# Altium schematic symbol library A3PE1500_ProAsici3.Schlib: 1 symbol
Pins are listed as number, name and electrical type; pins without a type are passive.

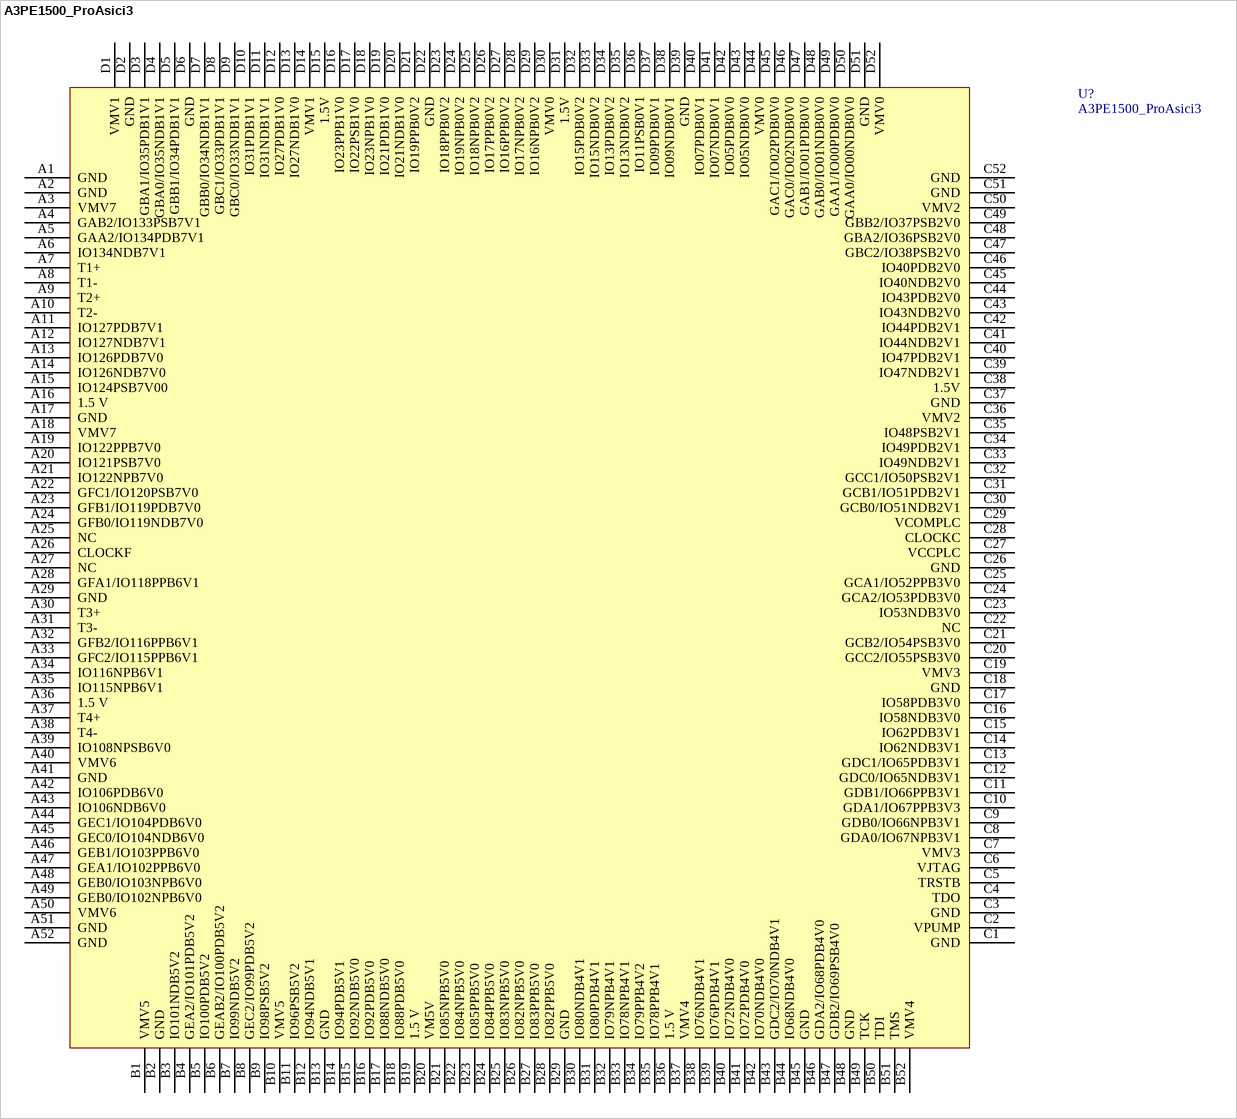
[diagram p0: symbol A3PE1500_ProAsici3]

## A3PE1500_ProAsici3
designator U?
Назначение: A3PE1500 - ProAsici3; Наименование: A3PE1500; Потребление, Вт: *
footprint A3PE1500_ProAsic3
pins: A1 GND (hiz), A2 GND (power), A3 VMV7 (power), A4 GAB2/IO133PSB7V1 (hiz), A5 GAA2/IO134PDB7V1 (hiz), A6 IO134NDB7V1 (hiz), A7 T1+ (hiz), A8 T1- (power), A9 T2+ (hiz), A10 T2- (hiz), A11 IO127PDB7V1 (hiz), A12 IO127NDB7V1 (hiz), A13 IO126PDB7V0 (hiz), A14 IO126NDB7V0 (power), A15 IO124PSB7V00 (hiz), A16 1.5 V (hiz), A17 GND (hiz), A18 VMV7 (hiz), A19 IO122PPB7V0 (hiz), A20 IO121PSB7V0 (power), A21 IO122NPB7V0 (hiz), A22 GFC1/IO120PSB7V0 (hiz), A23 GFB1/IO119PDB7V0 (hiz), A24 GFB0/IO119NDB7V0 (hiz), A25 NC (hiz), A26 CLOCKF (hiz), A27 NC (hiz), A28 GFA1/IO118PPB6V1 (hiz), A29 GND (power), A30 T3+ (power), A31 T3- (power), A32 GFB2/IO116PPB6V1 (power), A33 GFC2/IO115PPB6V1 (power), A34 IO116NPB6V1 (power), A35 IO115NPB6V1 (power), A36 1.5 V (power), A37 T4+ (power), A38 T4- (power), A39 IO108NPSB6V0 (power), A40 VMV6 (power), A41 GND (power), A42 IO106PDB6V0 (power), A43 IO106NDB6V0 (power), A44 GEC1/IO104PDB6V0 (power), A45 GEC0/IO104NDB6V0 (power), A46 GEB1/IO103PPB6V0 (power), A47 GEA1/IO102PPB6V0 (power), A48 GEB0/IO103NPB6V0 (power), A49 GEB0/IO102NPB6V0 (power), A50 VMV6 (power), A51 GND (power), A52 GND (power), B1 VMV5 (power), B2 GND (power), B3 IO101NDB5V2 (power), B4 GEA2/IO101PDB5V2 (power), B5 IO100PDB5V2 (power), B6 GEAB2/IO100PDB5V2 (power), B7 IO99NDB5V2 (power), B8 GEC2/IO99PDB5V2 (power), B9 IO98PSB5V2 (power), B10 VMV5 (power), B11 IO96PSB5V2 (power), B12 IO94NDB5V1 (power), B13 GND (power), B14 IO94PDB5V1 (power), B15 IO92NDB5V0 (power), B16 IO92PDB5V0 (power), B17 IO88NDB5V0 (power), B18 IO88PDB5V0 (power), B19 1.5 V (power), B20 VM5V (power), B21 IO85NPB5V0 (power), B22 IO84NPB5V0 (power), B23 IO85PPB5V0 (power), B24 IO84PPB5V0 (power), B25 IO83NPB5V0 (power), B26 IO82NPB5V0 (power), B27 IO83PPB5V0 (power), B28 IO82PPB5V0 (power), B29 GND (power), B30 IO80NDB4V1 (power), B31 IO80PDB4V1 (power), B32 IO79NPB4V1 (power), B33 IO78NPB4V1 (power), B34 IO79PPB4V2 (power), B35 IO78PPB4V1 (power), B36 1.5 V (power), B37 VMV4 (power), B38 IO76NDB4V1 (power), B39 IO76PDB4V1 (power), B40 IO72NDB4V0 (power), B41 IO72PDB4V0 (power), B42 IO70NDB4V0 (power), B43 GDC2/IO70NDB4V1 (power), B44 IO68NDB4V0 (power), B45 GND (power), B46 GDA2/IO68PDB4V0 (power), B47 GDB2/IO69PSB4V0 (power), B48 GND (power), B49 TCK (power), B50 TDI (power), B51 TMS (power), B52 VMV4 (power), C1 GND (power), C2 VPUMP (power), C3 GND (power), C4 TDO (power), C5 TRSTB (power), C6 VJTAG (power), C7 VMV3 (power), C8 GDA0/IO67NPB3V1 (power), C9 GDB0/IO66NPB3V1 (power), C10 GDA1/IO67PPB3V3 (power), C11 GDB1/IO66PPB3V1 (power), C12 GDC0/IO65NDB3V1 (power), C13 GDC1/IO65PDB3V1 (power), C14 IO62NDB3V1 (power), C15 IO62PDB3V1 (power), C16 IO58NDB3V0 (power), C17 IO58PDB3V0 (power), C18 GND (power), C19 VMV3 (power), C20 GCC2/IO55PSB3V0 (power), C21 GCB2/IO54PSB3V0 (power), C22 NC (power), C23 IO53NDB3V0 (power), C24 GCA2/IO53PDB3V0 (power), C25 GCA1/IO52PPB3V0 (power), C26 GND (power), C27 VCCPLC (power), C28 CLOCKC (power), C29 VCOMPLC (power), C30 GCB0/IO51NDB2V1 (power), C31 GCB1/IO51PDB2V1 (power), C32 GCC1/IO50PSB2V1 (power), C33 IO49NDB2V1 (power), C34 IO49PDB2V1 (power), C35 IO48PSB2V1 (power), C36 VMV2 (power), C37 GND (power), C38 1.5V (power), C39 IO47NDB2V1 (power), C40 IO47PDB2V1 (power), C41 IO44NDB2V1 (power), C42 IO44PDB2V1 (power), C43 IO43NDB2V0 (power), C44 IO43PDB2V0 (power), C45 IO40NDB2V0 (power), C46 IO40PDB2V0 (power), C47 GBC2/IO38PSB2V0 (power), C48 GBA2/IO36PSB2V0 (power), C49 GBB2/IO37PSB2V0 (power), C50 VMV2 (power), C51 GND (power), C52 GND (power), D1 VMV1 (hiz), D2 GND (hiz), D3 GBA1/IO35PDB1V1 (hiz), D4 GBA0/IO35NDB1V1 (hiz), D5 GBB1/IO34PDB1V1 (hiz), D6 GND (hiz), D7 GBB0/IO34NDB1V1 (hiz), D8 GBC1/IO33PDB1V1 (hiz), D9 GBC0/IO33NDB1V1 (hiz), D10 IO31PDB1V1 (hiz), D11 IO31NDB1V1 (hiz), D12 IO27PDB1V0 (hiz), D13 IO27NDB1V0 (hiz), D14 VMV1 (hiz), D15 1.5V (hiz), D16 IO23PPB1V0 (hiz), D17 IO22PSB1V0 (hiz), D18 IO23NPB1V0 (hiz), D19 IO21PDB1V0 (hiz), D20 IO21NDB1V0 (hiz), D21 IO19PPB0V2 (hiz), D22 GND (hiz), D23 IO18PPB0V2 (hiz), D24 IO19NPB0V2 (hiz), D25 IO18NPB0V2 (hiz), D26 IO17PPB0V2 (hiz), D27 IO16PPB0V2 (hiz), D28 IO17NPB0V2 (hiz), D29 IO16NPB0V2 (hiz), D30 VMV0 (hiz), D31 1.5V (hiz), D32 IO15PDB0V2 (hiz), D33 IO15NDB0V2 (hiz), D34 IO13PDB0V2 (hiz), D35 IO13NDB0V2 (hiz), D36 IO11PSB0V1 (hiz), D37 IO09PDB0V1 (hiz), D38 IO09NDB0V1 (hiz), D39 GND (hiz), D40 IO07PDB0V1 (hiz), D41 IO07NDB0V1 (hiz), D42 IO05PDB0V0 (hiz), D43 IO05NDB0V0 (hiz), D44 VMV0 (hiz), D45 GAC1/IO02PDB0V0 (hiz), D46 GAC0/IO02NDB0V0 (hiz), D47 GAB1/IO01PDB0V0 (hiz), D48 GAB0/IO01NDB0V0 (hiz), D49 GAA1/IO00PDB0V0 (hiz), D50 GAA0/IO00NDB0V0 (hiz), D51 GND (hiz), D52 VMV0 (hiz)